# Altium integrated library RS_connectors.IntLib: 8 symbols
Pins are listed as number, name and electrical type; pins without a type are passive.

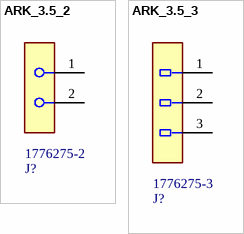
[diagram p0: symbols ARK_3.5_2 to ARK_3.5_3]

## ARK_3.5_2
designator J?  Part Number: 1776275-2
CONN TERM BLOCK 2POS SIDE ENT 3.5MM; Manufacturer: TE; Voltage: 250V; Is Female: yes; helpURL: https://upverter.com/upn/revision/4e6edfab3561cdf2/; ComponentLink2Description: Datasheet; Temperature: -55°C to +105°C; Package: HDR02; Supplier 2: Mouser; Price: 0.260723926123; Supplier 1: Digi-Key; ComponentLink1URL: https://upverter.com/upn/revision/4e6edfab3561cdf2/; Supplier Part Number 2: 571-1776275-2; Supplier Part Number 1: A98036-ND; ComponentLink1Description: Upverter; ComponentLink2URL: http://www.te.com/commerce/DocumentDelivery/DDEController?Action=showdoc&DocId=Customer+Drawing%7F1776275%7FR%7Fpdf%7FEnglish%7FENG_CD_1776275_R_baseFilename.pdf%7F1776275-2; RoHS: TRUE; Mouser Part Number: 571-1776275-2; Temperature Range High: +105°C; Digikey Description: CONN TERM BLOCK 2POS SIDE ENT 3.5MM; Digikey Part Number: A98036-ND; Lead Free: yes; Temperature Range Low: -55°C
footprint ARK_3.5_2
pins: 1, 2

## ARK_3.5_3
designator J?  Part Number: 1776275-3
CONN TERM BLOCK 3POS SIDE ENT 3.5MM; Manufacturer: TE; Voltage: 250V; helpURL: https://upverter.com/upn/revision/a0ef539887363a71/; ComponentLink2Description: Datasheet; Temperature: -55°C to +105°C; Package: HDR03; Supplier 2: Mouser; Price: 0.565609083036; Supplier 1: Digi-Key; ComponentLink1URL: https://upverter.com/upn/revision/a0ef539887363a71/; Supplier Part Number 2: 571-1776275-3; Supplier Part Number 1: A98037-ND; ComponentLink1Description: Upverter; ComponentLink2URL: http://www.te.com/usa-en/product-1776275-3.html#pdp-docs-features; RoHS: TRUE; Mouser Part Number: 571-1776275-3; Temperature Range High: +105°C; Digikey Description: CONN TERM BLOCK 3POS SIDE ENT 3.5MM; Digikey Part Number: A98037-ND; Temperature Range Low: -55°C; Lead Free: yes
footprint ARK_3.5_3
pins: 1, 2, 3


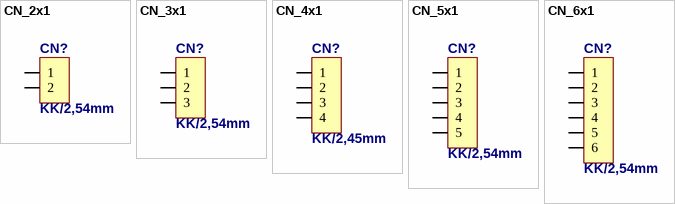
[diagram p1: symbols CN_2x1 to CN_6x1]

## CN_2x1
designator CN?, comment KK/2,54mm
Connector: PCB-cable; KK; socket; male; PIN:2; straight/right-angle; tinned; THT
footprint KK/2.54/2
footprint KK/2.54/2/H
pins: 1, 2

## CN_3x1
designator CN?, comment KK/2,54mm
Connector: PCB-cable; KK; socket; male; PIN:3; straight/right-angle; tinned; THT
footprint KK/2.54/3
footprint KK/2.54/3/H
pins: 1, 2, 3

## CN_4x1
designator CN?, comment KK/2,45mm
Connector: PCB-cable; KK; socket; male; PIN:4; straight/right-angle; tinned; THT
footprint KK/2.54/4
footprint KK/2.54/4/H
pins: 1, 2, 3, 4

## CN_5x1
designator CN?, comment KK/2,54mm
Connector: PCB-cable; KK; socket; male; PIN:5; straight/right-angle; tinned; THT
footprint KK/2.54/5
footprint KK/2.54/5/H
pins: 1, 2, 3, 4, 5

## CN_6x1
designator CN?, comment KK/2,54mm
Connector: PCB-cable; KK; socket; male; PIN:6; straight/right-angle; tinned; THT
footprint KK/2.54/6
footprint KK/2.54/6/H
pins: 1, 2, 3, 4, 5, 6


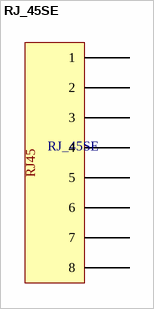
[diagram p2: symbol RJ_45SE]

## RJ_45SE
designator RJ_45SE  (value not drawn)
footprint RJ_45SE
pins: 1, 2, 3, 4, 5, 6, 7, 8
text: RJ45